# Altium schematic symbol library misc.SchLib: 5 symbols
Pins are listed as number, name and electrical type; pins without a type are passive.

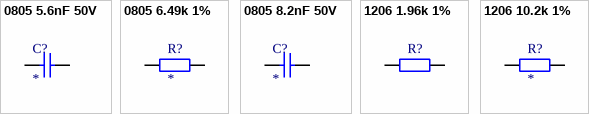
[diagram p0: symbols 0805 5.6nF 50V to 1206 10.2k 1%]

## 0805 5.6nF 50V
designator C?
PartNumber: CL21B562KBANNNC; LCSC: C153719
footprint 0805_C
pins: 1, 2

## 0805 6.49k 1%
designator R?
PartNumber: 0805W8F6491T5E; LCSC: C17769
footprint 0805_R
pins: 1, 2

## 0805 8.2nF 50V
designator C?
PartNumber: CL21B822KBANNNC; LCSC: C170117
footprint 0805_C
pins: 1, 2

## 1206 1.96k 1%
designator R?
PartNumber: 1206W4F1022T5E; LCSC: C247410
footprint 1206_R
pins: 1, 2

## 1206 10.2k 1%
designator R?
PartNumber: 1206W4F1022T5E; LCSC: C247410
footprint 1206_R
pins: 1, 2